# EAGLE library part PCA8565TS (library project121)
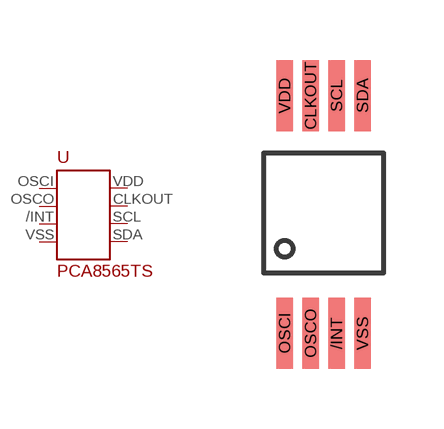
[diagram p1: symbol with the pads of PCA8565TS; footprint PCA8565TS]

Designator prefix U

## PCA8565TS  [PCA8565TS]
/INT  /INT
CLKOUT  CLKOUT
OSCI  OSCI
OSCO  OSCO
SCL  SCL
SDA  SDA
VDD  VDD
VSS  VSS

## Footprint PCA8565TS (pad centres in mm)
smd 0.42 x 1.78: /INT 0.665,-2.92; CLKOUT 0.015,3.02; OSCI -0.635,-2.92; OSCO 0.015,-2.92; SCL 0.665,3.02; SDA 1.315,3.02; VDD -0.635,3.02; VSS 1.315,-2.92